# EAGLE library part LINKIT-7688-DUO (library linkit7688duo)
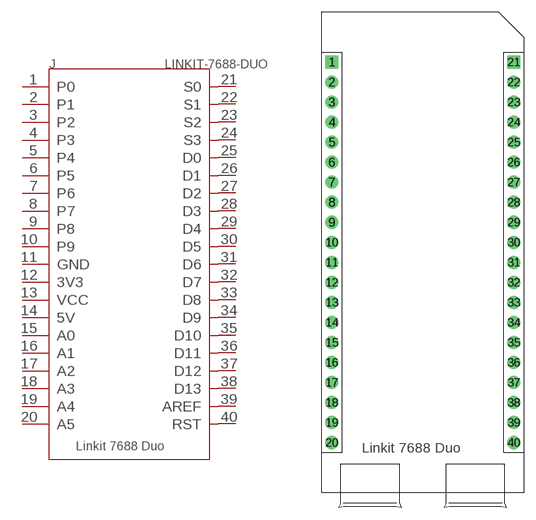
[diagram p0: symbol with the pads of LINKIT-7688-DUO-2X20; footprint LINKIT-7688-DUO-2X20]

Designator prefix J

## LINKIT-7688-DUO  [LINKIT-7688-DUO-2X20]
1  P0
2  P1
3  P2
4  P3
5  P4
6  P5
7  P6
8  P7
9  P8
10  P9
11  GND  pwr
12  3V3  pwr
13  VCC  pwr
14  5V  pwr
15  A0
16  A1
17  A2
18  A3
19  A4
20  A5
21  S0
22  S1
23  S2
24  S3
25  D0
26  D1
27  D2
28  D3
29  D4
30  D5
31  D6
32  D7
33  D8
34  D9
35  D10
36  D11
37  D12
38  D13
39  AREF
40  RST

## Footprint LINKIT-7688-DUO-2X20 (pad centres in mm)
drill 0.889 pad 1.651 square: 1 0,24.13; 21 23.05,24.13
drill 0.889 pad 1.651: 2 0,21.59; 3 0,19.05; 4 0,16.51; 5 0,13.97; 6 0,11.43; 7 0,8.89; 8 0,6.35; 9 0,3.81; 10 0,1.27; 11 0,-1.27; 12 0,-3.81; 13 0,-6.35; 14 0,-8.89; 15 0,-11.43; 16 0,-13.97; 17 0,-16.51; 18 0,-19.05; 19 0,-21.59; 20 0,-24.13; 22 23.05,21.59; 23 23.05,19.05; 24 23.05,16.51; 25 23.05,13.97; 26 23.05,11.43; 27 23.05,8.89; 28 23.05,6.35; 29 23.05,3.81; 30 23.05,1.27; 31 23.05,-1.27; 32 23.05,-3.81; 33 23.05,-6.35; 34 23.05,-8.89; 35 23.05,-11.43; 36 23.05,-13.97; 37 23.05,-16.51; 38 23.05,-19.05; 39 23.05,-21.59; 40 23.05,-24.13